# Altium footprint library KM_BD01.PcbLib: 27 footprints (part 2 of 2)
Each footprint in its own frame and in the unit in brackets; x right, y up, seen from the top. Pads: shape width x height; smd on the part's side, far side on the other; paste and mask are expansions set on the pad; w line width, h text height; cw(c..) or ccw(c..) is an arc to the next point about the centre after c.
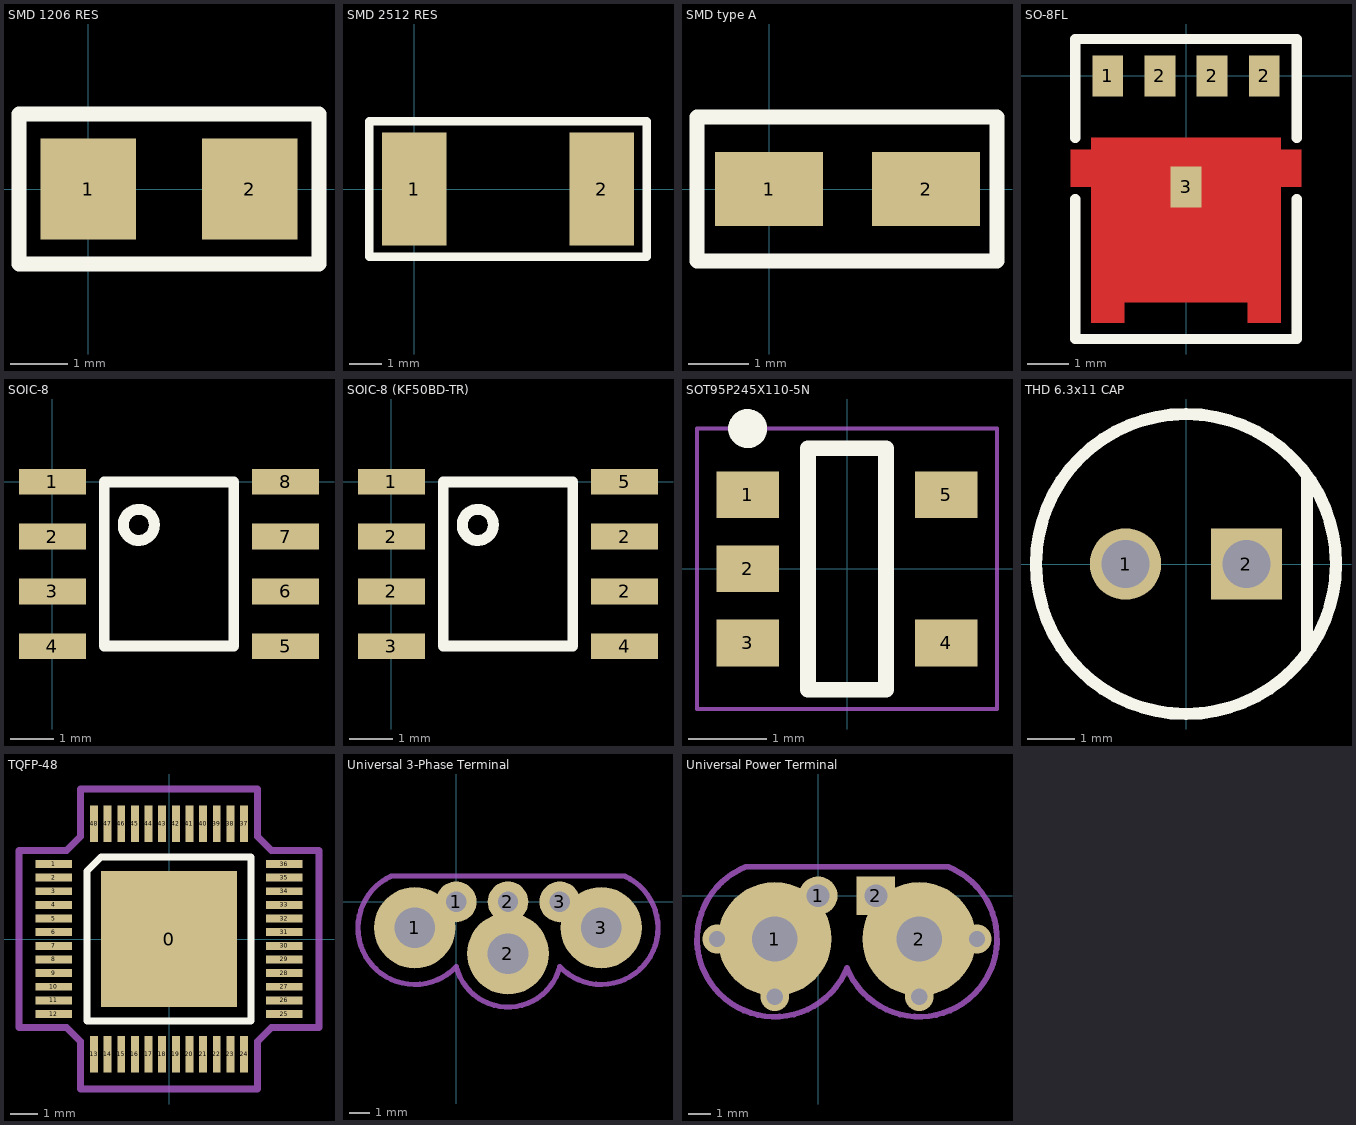
[diagram p1: the footprints below, top view; thin cyan lines are the x and y axes]

## SMD 1206 RES [mm]
pads (2):
  rect 1.65x1.75 smd: 1(0,0) 2(2.8,0)
Top Overlay:
  lines w0.254: -1.2,-1.3 4,-1.3 4,1.3 -1.2,1.3 -1.2,-1.3
3D body "RESC-1206.stp": height 0.65, standoff 0, extent -0.38,-0.85 2.92,0.85

## SMD 2512 RES [mm]
pads (2):
  rect 2x3.5 smd: 1(0,0) 2(5.8,0)
Top Overlay:
  lines w0.254: -1.4,-2.1 7.2,-2.1 7.2,2.1 -1.4,2.1 -1.4,-2.1
3D body "RESC-2512.stp": height 0.65, standoff 0, extent -0.279,-1.65 6.121,1.65

## SMD type A [mm] "Capacitor TECAP"
pads (2):
  rect 1.8x1.23 smd: 1(0,0) 2(2.62,0)
Top Overlay:
  lines w0.254: -1.2,-1.2 -1.2,1.2 3.8,1.2 3.8,-1.2 -1.2,-1.2
3D body "CAPM-TANTA-YL.stp": height 1.8, standoff 0, extent -0.43,-0.9 2.97,0.9

## SO-8FL [mm]
pads (5):
  rect 0.75x1 smd: 1(-1.905,0) 2(-0.635,0) 2(0.635,0) 2(1.905,0) 3(0,-2.7)
Top Layer:
  region: -2.31,-1.5 2.3,-1.5 2.3,-1.8 2.8,-1.8 2.8,-2.7 2.3,-2.7 2.3,-6 1.5,-6 1.5,-5.5 -1.5,-5.5 -1.5,-6 -2.31,-6 -2.31,-2.7 -2.8,-2.7 -2.8,-1.8 -2.31,-1.8
Top Overlay:
  lines w0.254: -2.7,-3 -2.7,-6.4 2.7,-6.4 2.7,-3 ; -2.7,-1.5 -2.7,0.9 2.7,0.9 2.7,-1.5
3D body "SO-8FL.STEP": height 0.95, standoff -0.05, extent -2.6,-5.75 2.6,0.35

## SOIC-8 [mm]
pads (8):
  rect 1.55x0.6 smd: 1(0,0) 2(0,-1.27) 3(0,-2.54) 4(0,-3.81) 5(5.4,-3.81) 6(5.4,-2.54) 7(5.4,-1.27) 8(5.4,0)
Top Overlay:
  circle w0.254: c2,-1 r0.361
  lines w0.254: 1.2,-3.8 4.2,-3.8 4.2,0 1.2,0 1.2,-3.8
3D body "Package, SOIC-8, 3.9mm.STEP": height 1.5, standoff 0, extent -0.46,-4.355 5.54,0.545

## SOIC-8 (KF50BD-TR) [mm]
pads (8):
  rect 1.55x0.6 smd: 1(0,0) 2(0,-2.54) 2(0,-1.27) 2(5.4,-2.54) 2(5.4,-1.27) 3(0,-3.81) 4(5.4,-3.81) 5(5.4,0)
Top Overlay:
  circle w0.254: c2,-1 r0.361
  lines w0.254: 1.2,-3.8 4.2,-3.8 4.2,0 1.2,0 1.2,-3.8
3D body "Package, SOIC-8, 3.9mm.STEP": height 1.5, standoff 0, extent -0.46,-4.355 5.54,0.545

## SOT95P245X110-5N [mm] "SOT23, 5-Leads, Body 2,90x2,45mm, Pitch 0,95mm, IPC Medium Density"
height 1.1
pads (5):
  rect 0.8x0.6 smd: 1(-1.275,0.95) 2(-1.275,0) 3(-1.275,-0.95) 4(1.275,-0.95) 5(1.275,0.95)
Top Overlay:
  circle w0.25: c-1.275,1.8 r0.125
  lines w0.2: -0.5,-1.55 0.5,-1.55 0.5,1.55 -0.5,1.55 -0.5,-1.55
Mechanical 15:
  lines w0.05: -1.925,-1.8 1.925,-1.8 1.925,1.8 -1.925,1.8 -1.925,-1.8
3D body "MO-178AA.stp": height 1.45, standoff 0, extent -1.5,-1.525 1.5,1.525

## THD 6.3x11 CAP [mm]
pads (2):
  round 1.5 hole 1: 1(-1.27,0)
  rect 1.5x1.5 hole 1: 2(1.27,0)
Top Overlay:
  circle w0.254: c0,0 r3.15
  lines w0.254: 2.54,-1.778 2.54,1.778
3D body "CAP_RAD_D6.3x11_POL_BK.stp": height 12.5, standoff -2.5, extent -3.4,-3.4 3.4,3.4

## TQFP-48 [mm] "Microcontroller"
pads (49):
  rect 5x5 smd: 0(0,0)
  rect 1.35x0.29 smd: 1(-4.225,2.75) 2(-4.225,2.25) 3(-4.225,1.75) 4(-4.225,1.25) 5(-4.225,0.75) 6(-4.225,0.25) 7(-4.225,-0.25) 8(-4.225,-0.75) 9(-4.225,-1.25) 10(-4.225,-1.75) 11(-4.225,-2.25) 12(-4.225,-2.75) 25(4.225,-2.75) 26(4.225,-2.25) 27(4.225,-1.75) 28(4.225,-1.25) 29(4.225,-0.75) 30(4.225,-0.25) 31(4.225,0.25) 32(4.225,0.75) 33(4.225,1.25) 34(4.225,1.75) 35(4.225,2.25) 36(4.225,2.75)
  rect 0.29x1.35 smd: 13(-2.75,-4.225) 14(-2.25,-4.225) 15(-1.75,-4.225) 16(-1.25,-4.225) 17(-0.75,-4.225) 18(-0.25,-4.225) 19(0.25,-4.225) 20(0.75,-4.225) 21(1.25,-4.225) 22(1.75,-4.225) 23(2.25,-4.225) 24(2.75,-4.225) 37(2.75,4.225) 38(2.25,4.225) 39(1.75,4.225) 40(1.25,4.225) 41(0.75,4.225) 42(0.25,4.225) 43(-0.25,4.225) 44(-0.75,4.225) 45(-1.25,4.225) 46(-1.75,4.225) 47(-2.25,4.225) 48(-2.75,4.225)
Top Overlay:
  lines w0.254: -3,-3 3,-3 3,3 -2.5,3 -3,2.5 -3,-3
Mechanical 15:
  lines w0.254: -5.5,-3.25 -5.5,3.25 -3.75,3.25 -3.25,3.75 -3.25,5.5 3.25,5.5 3.25,3.75 3.75,3.25 5.5,3.25 5.5,-3.25 3.75,-3.25 3.25,-3.75 3.25,-5.5 -3.25,-5.5 -3.25,-3.75 -3.75,-3.25 -5.5,-3.25
3D body "MS-026BBC.stp": height 1.6, standoff 0, extent -4.6,-4.6 4.6,4.6

## Universal 3-Phase Terminal [mm]
pads (6):
  round 4 hole 2: 1(-2.032,-1.27) 2(2.54,-2.54) 3(7.112,-1.27)
  round 2 hole 1: 1(0,0) 2(2.54,0) 3(5.08,0)
Mechanical 15:
  lines w0.254: -3.175,1.27 ccw(c-2.032,-1.27) 0,-3.175 ccw(c2.54,-2.54) 5.08,-3.175 ccw(c7.112,-1.27) 8.255,1.27 -3.175,1.27

## Universal Power Terminal [mm]
pads (4):
  round 5 hole 2: 1(-1.905,-1.905) 2(4.445,-1.905)
  round 1.7 hole 1: 1(0,0)
  rect 1.7x1.7 hole 1: 2(2.54,0)
via -1.905,-4.445 diameter 1.27 hole 0.711
via -4.445,-1.905 diameter 1.27 hole 0.711
via 4.445,-4.445 diameter 1.27 hole 0.711
via 6.985,-1.905 diameter 1.27 hole 0.711
Mechanical 15:
  lines w0.254: -3.175,1.27 ccw(c-1.905,-1.905) 1.27,-3.175 ccw(c4.445,-1.905) 5.715,1.27 -3.175,1.27